# Altium footprint library Mech.PcbLib: 4 footprints
Each footprint in its own frame and in the unit in brackets; x right, y up, seen from the top. Pads: shape width x height; smd on the part's side, far side on the other; paste and mask are expansions set on the pad; w line width, h text height; cw(c..) or ccw(c..) is an arc to the next point about the centre after c.
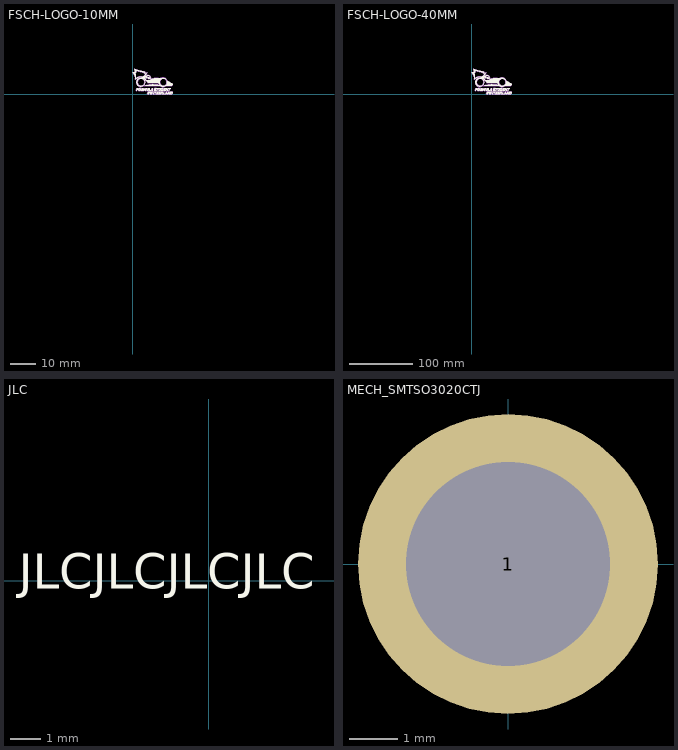
[diagram p0: the footprints below, top view; thin cyan lines are the x and y axes]

## FSCH-LOGO-10MM [mm]
Top Overlay:
  drawing of 37 lines, arcs and shapes, not listed
Top Assembly:
  drawing of 2151 lines, arcs and shapes, not listed
3D body: height 0.01, standoff 0, extent 3.486,5.584 5.818,8.543
3D body: height 0.01, standoff 0, extent 5.516,1.383 6.443,2.345
3D body: height 0.01, standoff 0, extent 4.266,1.391 5.395,2.345
3D body: height 0.01, standoff 0, extent 1.475,1.391 2.292,2.345
3D body: height 0.01, standoff 0, extent -0.005,5.884 5.077,10.125
3D body: height 0.01, standoff 0, extent 5.215,6.453 5.898,7.136
3D body: height 0.01, standoff 0, extent 6.089,6.16 7.162,6.795
3D body: height 0.01, standoff 0, extent 3.323,1.391 4.172,2.345
3D body: height 0.01, standoff 0, extent 2.304,1.383 3.231,2.35
3D body: height 0.01, standoff 0, extent 1.464,3.021 4.945,6.502
3D body: height 0.01, standoff 0, extent 4.936,5.526 7.35,7.478
3D body: height 0.01, standoff 0, extent 6.85,0.006 8.217,0.959
3D body: height 0.01, standoff 0, extent 5.862,-0.005 6.725,0.967
3D body: height 0.01, standoff 0, extent 6.483,1.391 7.175,2.345
3D body: height 0.01, standoff 0, extent 4.492,3.347 10.785,3.872
3D body: height 0.01, standoff 0, extent 7.231,1.391 8.084,2.345
3D body: height 0.01, standoff 0, extent 8.172,0.006 8.595,0.959
3D body: height 0.01, standoff 0, extent 10.395,0.006 11.225,0.959
3D body: height 0.01, standoff 0, extent 12.185,0.006 12.876,0.959
3D body: height 0.01, standoff 0, extent 13.949,0.006 14.948,0.959
3D body: height 0.01, standoff 0, extent 8.737,0.006 9.542,0.959
3D body: height 0.01, standoff 0, extent 11.242,0.006 12.091,0.959
3D body: height 0.01, standoff 0, extent 12.933,0.006 13.785,0.959
3D body: height 0.01, standoff 0, extent 9.469,0.006 10.385,0.959
3D body: height 0.01, standoff 0, extent 15.001,0.006 15.91,0.959
3D body: height 0.01, standoff 0, extent 10.379,1.383 11.307,2.345
3D body: height 0.01, standoff 0, extent 8.544,1.381 9.407,2.353
3D body: height 0.01, standoff 0, extent 11.347,1.391 12.256,2.345
3D body: height 0.01, standoff 0, extent 12.351,1.391 13.181,2.345
3D body: height 0.01, standoff 0, extent 13.198,1.391 14.197,2.345
3D body: height 0.01, standoff 0, extent 9.525,1.391 10.33,2.345
3D body: height 0.01, standoff 0, extent 14.339,1.391 15.144,2.345
3D body: height 0.01, standoff 0, extent 13.323,3.351 15.918,5.328
3D body: height 0.01, standoff 0, extent 5.806,4.59 10.238,4.872
3D body: height 0.01, standoff 0, extent 10.335,2.997 13.864,6.526
3D body: height 0.01, standoff 0, extent 5.421,5.013 10.307,5.298
3D body: height 0.01, standoff 0, extent 7.35,5.526 11.021,6.407

## FSCH-LOGO-40MM [mm]
Top Overlay:
  drawing of 37 lines, arcs and shapes, not listed
Top Assembly:
  drawing of 2151 lines, arcs and shapes, not listed
3D body: height 0.01, standoff 0, extent 28.996,21.807 43.472,25.279
3D body: height 0.01, standoff 0, extent 21.394,19.785 40.656,20.907
3D body: height 0.01, standoff 0, extent 40.767,11.836 54.679,25.748
3D body: height 0.01, standoff 0, extent 22.908,18.115 40.384,19.229
3D body: height 0.01, standoff 0, extent 52.547,13.232 62.778,21.024
3D body: height 0.01, standoff 0, extent 56.555,5.505 59.725,9.263
3D body: height 0.01, standoff 0, extent 37.575,5.505 40.745,9.263
3D body: height 0.01, standoff 0, extent 52.056,5.505 55.994,9.263
3D body: height 0.01, standoff 0, extent 48.716,5.505 51.987,9.263
3D body: height 0.01, standoff 0, extent 44.757,5.505 48.341,9.263
3D body: height 0.01, standoff 0, extent 33.706,5.462 37.109,9.295
3D body: height 0.01, standoff 0, extent 40.941,5.473 44.598,9.263
3D body: height 0.01, standoff 0, extent 59.164,0.042 62.748,3.8
3D body: height 0.01, standoff 0, extent 37.353,0.042 40.962,3.8
3D body: height 0.01, standoff 0, extent 51.008,0.042 54.369,3.8
3D body: height 0.01, standoff 0, extent 44.344,0.042 47.69,3.8
3D body: height 0.01, standoff 0, extent 34.468,0.042 37.638,3.8
3D body: height 0.01, standoff 0, extent 55.015,0.042 58.953,3.8
3D body: height 0.01, standoff 0, extent 48.06,0.042 50.786,3.8
3D body: height 0.01, standoff 0, extent 41.005,0.042 44.276,3.8
3D body: height 0.01, standoff 0, extent 32.24,0.042 33.907,3.8
3D body: height 0.01, standoff 0, extent 28.529,5.505 31.89,9.263
3D body: height 0.01, standoff 0, extent 17.731,13.216 42.541,15.285
3D body: height 0.01, standoff 0, extent 23.13,0 26.534,3.832
3D body: height 0.01, standoff 0, extent 27.026,0.042 32.414,3.8
3D body: height 0.01, standoff 0, extent 0,23.218 20.035,39.938
3D body: height 0.01, standoff 0, extent 24.024,24.305 28.258,26.808
3D body: height 0.01, standoff 0, extent 19.48,21.807 28.996,29.503
3D body: height 0.01, standoff 0, extent 5.789,11.929 19.515,25.655
3D body: height 0.01, standoff 0, extent 20.581,25.462 23.273,28.155
3D body: height 0.01, standoff 0, extent 9.104,5.473 12.756,9.284
3D body: height 0.01, standoff 0, extent 13.121,5.505 16.467,9.263
3D body: height 0.01, standoff 0, extent 5.833,5.505 9.057,9.263
3D body: height 0.01, standoff 0, extent 16.837,5.505 21.288,9.263
3D body: height 0.01, standoff 0, extent 21.765,5.473 25.422,9.263
3D body: height 0.01, standoff 0, extent 25.581,5.505 28.307,9.263
3D body: height 0.01, standoff 0, extent 13.765,22.033 22.959,33.703

## JLC [mm]
Top Overlay:
  text "JLCJLCJLCJLC" at -6.312,-0.641 h2

## MECH_SMTSO3020CTJ [mm] "SMTSO M3x0.5, 2mm Solder Nut"
pads (1):
  round 6.2 hole 4.22: 1(0,0)
3D body "SMTSO3020CTJ.stp": height 2, standoff -0.76, extent -2.768,-2.78 2.768,2.78